# Altium schematic symbol library myLib.SchLib: 153 symbols (part 2 of 2)
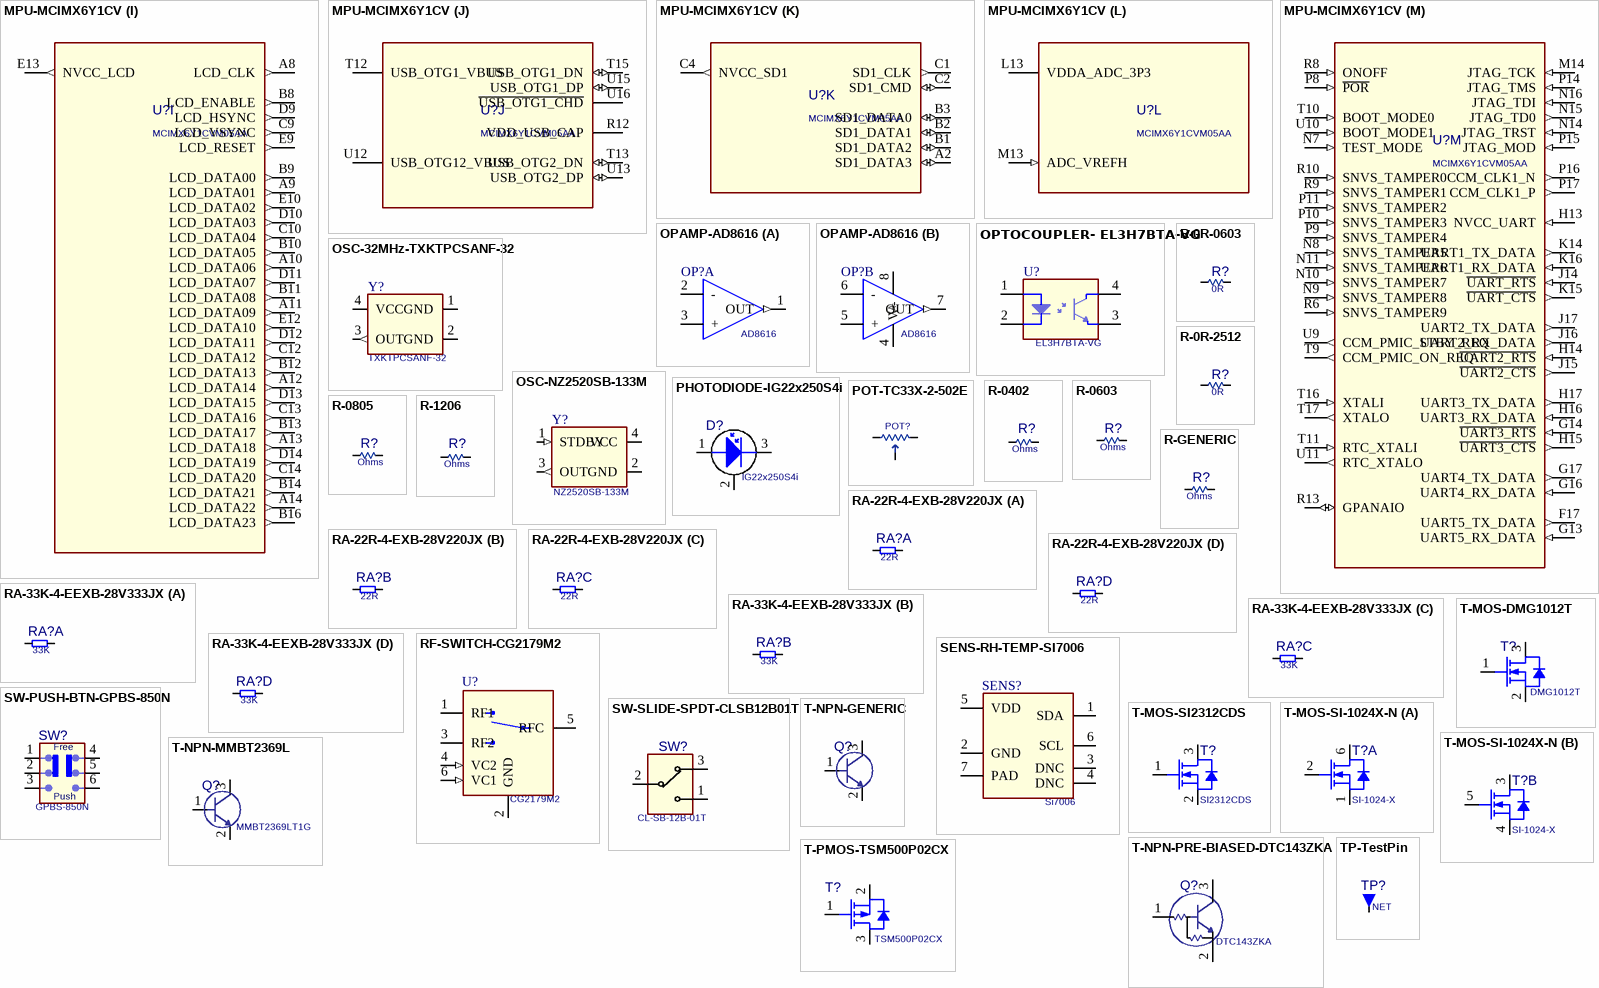
[diagram p7: symbols MPU-MCIMX6Y1CV to TP-TestPin]

## OSC-32MHz-TXKTPCSANF-32
designator Y?, comment TXKTPCSANF-32
Crystal Oscillator, 32MHz; Manufacturer: Taitien; Manufacturer Part Number: TXKTPCSANF-32
footprint OSC-NZ2520SB-133M (Crystall Oscillator, 133MHz)
footprint OSC-32MHz-TXKTPCSANF-32 (Crystall Oscillator, 32MHz)
pins: 1 GND (power), 2 GND (power), 3 OUT (out), 4 VCC (power)

## OSC-NZ2520SB-133M
designator Y?, comment NZ2520SB-133M
Crystal Oscillator, 133MHz; Manufacturer: NDK; Manufacturer Part Number: NZ2520SB-133M
footprint OSC-NZ2520SB-133M (Crystall Oscillator, 133MHz)
pins: 1 STDBY (in), 2 GND (power), 3 OUT (out), 4 VCC (power)

## PHOTODIODE-IG22x250S4i
designator D?, comment IG22x250S4i
Photovoltiac NIR Photodiode; Manufacturer: Laser Components; Wavelength: 1150 - 2200 nm; Capacitance @ 0V: 40pF; Forward Voltage: 0.56 V; Reverse Voltage Max: 5V; Forward Current Max: 1 mA; Dark Current (at 5V Reverse Volta): 0.5 uA; Shunt Impedance: 400 - 500 kohm; Manufacturer Part No.: IG22x250S4i
footprint PHOTODIODE-IG22x250S4i (Photovoltiac NIR Photodiode)
pins: 1, 2 CASE, 3

## POT-TC33X-2-502E
designator POT?, comment TC33X-2-502E  (value not drawn)
5 kOhms 0.1W, 1/10W J Lead Surface Mount Trimmer Potentiometer Cermet 1 Turn Top Adjustment; Manufacturer: Bourns Inc.; Manufacturer Part No.: TC33X-2-502E
footprint POT-TC33X-2-502E
pins: 1, 2, 3

## R-0R-0603
designator R?, comment 0R
Generic Resistor; Rating: Watt; Tolerance: ppm; Package: 0603; Value: 0R
footprint R-0603 (Resistor, Generic, 0603)
pins: 1, 2

## R-0R-2512
designator R?, comment 0R
Generic Resistor; Rating: Watt; Tolerance: ppm; Package: 2512; Value: 0R
footprint R-2512 (Resistor, Generic, 2512)
pins: 1, 2

## R-0402
designator R?, comment Ohms
Resistor; Rating: Watt; Tolerance: ppm; Package: 0402; Value: Ohms
footprint R-0402 (Resistor, Generic, 0402)
pins: 1, 2

## R-0603
designator R?, comment Ohms
Resistor; Rating: Watt; Tolerance: ppm; Package: 0603; Value: Ohms
footprint R-0603 (Resistor, Generic, 0603)
pins: 1, 2

## R-0805
designator R?, comment Ohms
Resistor; Rating: Watt; Tolerance: ppm; Package: 0805; Value: Ohms
footprint R-0805 (Resistor, Generic, 0805)
pins: 1, 2

## R-1206
designator R?, comment Ohms
Resistor; Rating: Watt; Tolerance: ppm; Package: 1206; Value: Ohms
footprint R-1206 (Resistor, Generic, 1206)
pins: 1, 2

## R-GENERIC
designator R?, comment Ohms
Generic Resistor; Rating: Watt; Tolerance: ppm; Package: Size; Value: Ohms
pins: 1, 2

## RA-22R-4-EXB-28V220JX
designator RA?, comment 22R
Resistor Array 22R; Manufacturer: Panasonic; Manufacturer Part Number: EXB-28V220JX; Tolerance: 5%; Power Dissipation: 62.5mW; Size: 0804; Value: 22R
footprint RA-22R-4-EXB-28V220JX (Resistor Array 4, 22R, EXB-28V220JX)
part A pins: 1, 8
part B pins: 2, 7
part C pins: 3, 6
part D pins: 4, 5

## RA-33K-4-EEXB-28V333JX
designator RA?, comment 33K
Resistor Array 33K; Manufacturer: Panasonic; Manufacturer Part Number: EXB-28V333JX; Tolerance: 5%; Power Dissipation: 62.5mW; Size: 0804; Value: 33K
footprint RA-22R-4-EXB-28V333JX (Resistor Array 4, 22R, EXB-28V333JX)
part A pins: 1, 8
part B pins: 2, 7
part C pins: 3, 6
part D pins: 4, 5

## RF-SWITCH-CG2179M2
designator U?, comment CG2179M2
RF Medium Power SPDT Switch; Manufacturer: CEL; Manufacturer Part No.: CG2179M2
footprint RF-SWITCH-CG2179M2 (RF Medium Power SPDT Switch)
pins: 1 RF1, 2 GND (power), 3 RF2, 4 VC2 (in), 5 RFC, 6 VC1 (in)

## SENS-RH-TEMP-SI7006
designator SENS?, comment Si7006
Sensor Humidity/Temperature 3.6V I2C 5% 6DFN; Manufacturer: Silicon Labs; Sensor: Relative Humidity and Temperature; Manufacturer Part No.: Si7006
footprint SENS-RH-TEMP-SI7006 (Sensor Humidity/Temperature 3.6V I2C 5% 6DFN)
pins: 1 SDA, 2 GND (power), 3 DNC, 4 DNC, 5 VDD (power), 6 SCL, 7 PAD

## SW-PUSH-BTN-GPBS-850N
designator SW?, comment GPBS-850N
Switch Pushbutton DPDT 0.3A 30V; Manufacturer Name: CW Industries; Rating: 50mA; Type: Off-Mom; Manufacturer Part No.: GPBS-850N
footprint SW-PUSH-BTN-GPBS-850N (Switch Pushbutton DPDT 0.3A 30V)
pins: 1, 2, 3, 4, 5, 6
text: Free; Push

## SW-SLIDE-SPDT-CLSB12B01T
designator SW?  Manufacturer Part Number: CL-SB-12B-01T  (hidden comment: SW-SLIDE-SPDT-CLSB12B01T)
Slide Switch, SPDT, Surface Mount; Manufacturer: Nidec Copal Electronics
footprint SW-SLIDE-SPDT-CLSB12B01T
pins: 1 (power), 2 (power), 3 (power)

## T-MOS-DMG1012T
designator T?, comment DMG1012T
N-Channel 20V (D-S)  MOSFET; Manufacturer: Diode Inc; Manufacturer Part Number: DMG1012T
footprint T-MOS-DMG1012T (MOSFET, SOT23, 3-Leads (DMG1012T))
pins: 1 G, 2 S, 3 D

## T-MOS-SI2312CDS
designator T?, comment SI2312CDS
N-Channel 20V (D-S)  MOSFET; Manufacturer: Vishay; Manufacturer Part Number: SI2312CDS
footprint T-MOS-SI2312CDS (MOSFET (SI2312CDS))
pins: 1 G, 2 S, 3 D

## T-MOS-SI-1024X-N
designator T?, comment Manufacturer Part Number: SI-1024-X  (hidden comment: SI-1024X-N)
Dual N-Channel 20V (D-S)  MOSFET; Manufacturer: Vishay
footprint T-MOS-SI-1024X-N (MOSFET (SI-1024X-N))
part A pins: 1 S, 2 G, 6 D
part B pins: 3 D, 4 S, 5 G

## T-NPN-GENERIC
designator Q?
Generic NPN Transistor; Type: NPN
pins: 1, 2, 3

## T-NPN-MMBT2369L
designator Q?, comment MMBT2369LT1G
NPN Transistor; Manufacturer: ON Semiconductor; Collector Current Max: 200mA; Type: NPN; Manufacturer Part No.: MMBT2369LT1G
footprint T-NPN-MMBT2369L (NPN Transistor, SOT-23)
pins: 1, 2, 3

## T-NPN-PRE-BIASED-DTC143ZKA
designator Q?, comment DTC143ZKA
Generic NPN Transistor; Manufacturer: Rohm Semiconductor; Type: NPN; Manufacturer Part No.: DTC143ZKA
footprint T-NPN-PRE-BIASED-DTC143ZKA (DTC143ZEBTL, NPN, Pre-Biased, SOT-490)
pins: 1, 2, 3

## T-PMOS-TSM500P02CX
designator T?, comment TSM500P02CX
P-Channel 20V 4.7A (Tc) 1.56W (Tc); Manufacturer: Taiwan Semiconductor Corporation; Type: P-Channel Enchancement; Vt Max: 0.8 V; Rds on Max.: 85 milliohm; Vds Max.: -20 V; Manufacturer Part Number: TSM500P02CX
footprint T-PMOS-TSM500P02CX (P-Channel 20V 4.7A (Tc) 1.56W (Tc))
pins: 1 G, 2 S, 3 D

## TP-TestPin
designator TP?, comment Connection: NET  (hidden comment: TP-Generic)
Testpin TestPoint
pins: 1

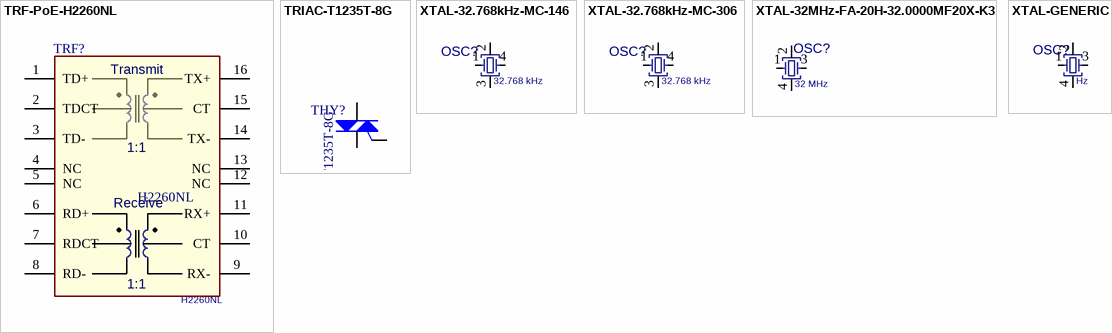
[diagram p6: symbols TRF-PoE-H2260NL to XTAL-GENERIC]

## TRF-PoE-H2260NL
designator TRF?, comment H2260NL
PoE Magnetics; Manufacturer: Pulse Electronics Network; Insertion Loss: -1.1 @ 100 MHz; Return Loss: -10 @ 80MHz; Insulation Voltage: 1500 V; Turn Ratio: 1:1; Manufacturer Part No.: H2260NL
footprint TRF-PoE-H2260NL (PoE Magnetics)
pins: 1 TD+, 2 TDCT, 3 TD-, 4 NC, 5 NC, 6 RD+, 7 RDCT, 8 RD-, 9 RX-, 10 CT, 11 RX+, 12 NC, 13 NC, 14 TX-, 15 CT, 16 TX+
text: Transmit; Receive

## TRIAC-T1235T-8G
designator THY?, comment T1235T-8G
ST's  Snubberless TRIAC 3 Quadrant; Manufacturer: ST Microelectronics; Manufacturer Part No.: T1235T-8G
pins: 1, 2, 3

## XTAL-32.768kHz-MC-146
designator OSC?, comment 32.768 kHz
32.768kHz ±20ppm Crystal 9pF 65 kOhms; Manufacturer: EPSON; Manufacturer Part No.: MC-146 32.768KA-AC3; Drive: 1.0 uW; Tolerance: 20 ppm; Type: Parallel | Fundamental; ESR: 65 kOhms; Frequency: 32.768 kHz
footprint XTAL-32.768kHz-MC-146 (32.768kHz ±20ppm Crystal 9pF 65 kOhms)
pins: 1, 2, 3, 4

## XTAL-32.768kHz-MC-306
designator OSC?, comment 32.768 kHz
32.768kHz ±100ppm Crystal 12.5pF 50 kOhms; Manufacturer: EPSON; Manufacturer Part No.: MC-306 32.7680K-A5; Tolerance: 100 ppm; Type: Parallel | Fundamental; ESR: 50 kOhms; Frequency: 32.768 kHz
footprint XTAL-32.768kHz-MC-306 (32.768kHz ±100ppm Crystal 12.5pF 50 kOhms)
pins: 1, 2, 3, 4

## XTAL-32MHz-FA-20H-32.0000MF20X-K3
designator OSC?, comment 32 MHz
Crystal 32.00MHZ 10pF SMD; Manufacturer: EPSON; Manufacturer Part No.: FA-20H 32.0000MF20X-K3; Tolerance: 10 ppm; Resonance Mode: Parallel; ESR: 50 ohm; Type: Fundamental; Load Cap: 10 pF; Frequency: 32 MHz
footprint XTAL-32MHz-FA-20H-32.0000MF20X-K3 (32MHz Crystal, +-20ppm)
pins: 1, 2, 3, 4

## XTAL-GENERIC
designator OSC?, comment Hz
Four Pin Generic Crystal; Tolerance: ppm; Frequency: Hz
pins: 1, 2, 3, 4